# EAGLE library part 2X4SMDHEADER (library Header)
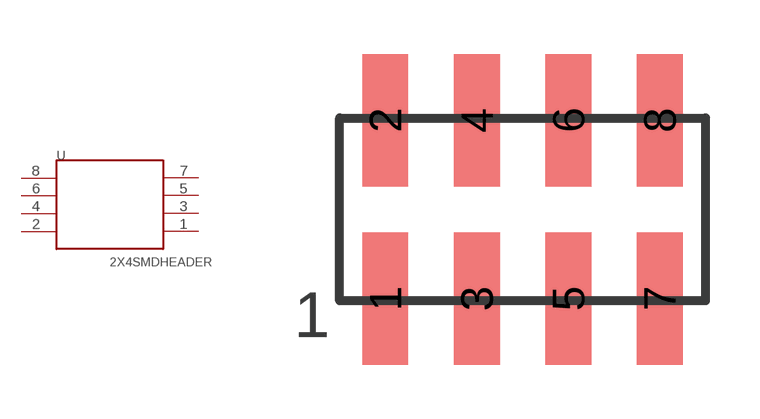
[diagram p0: symbol with the pads of TSM-110-XX-XXX-DV; footprint TSM-110-XX-XXX-DV]

Designator prefix -

## 2X4SMDHEADER  [TSM-110-XX-XXX-DV]
1  1
2  2
3  3
4  4
5  5
6  6
7  7
8  8

## Footprint TSM-110-XX-XXX-DV (pad centres in mm)
smd 1.27 x 3.683: 1 -3.81,-2.731; 2 -3.81,2.223; 3 -1.27,-2.731; 4 -1.27,2.223; 5 1.27,-2.731; 6 1.27,2.223; 7 3.81,-2.731; 8 3.81,2.223